# Altium footprint library connector_rename_bug.PcbLib: 30 footprints (part 1 of 2)
Each footprint in its own frame and in the unit in brackets; x right, y up, seen from the top. Pads: shape width x height; smd on the part's side, far side on the other; paste and mask are expansions set on the pad; w line width, h text height; cw(c..) or ccw(c..) is an arc to the next point about the centre after c.
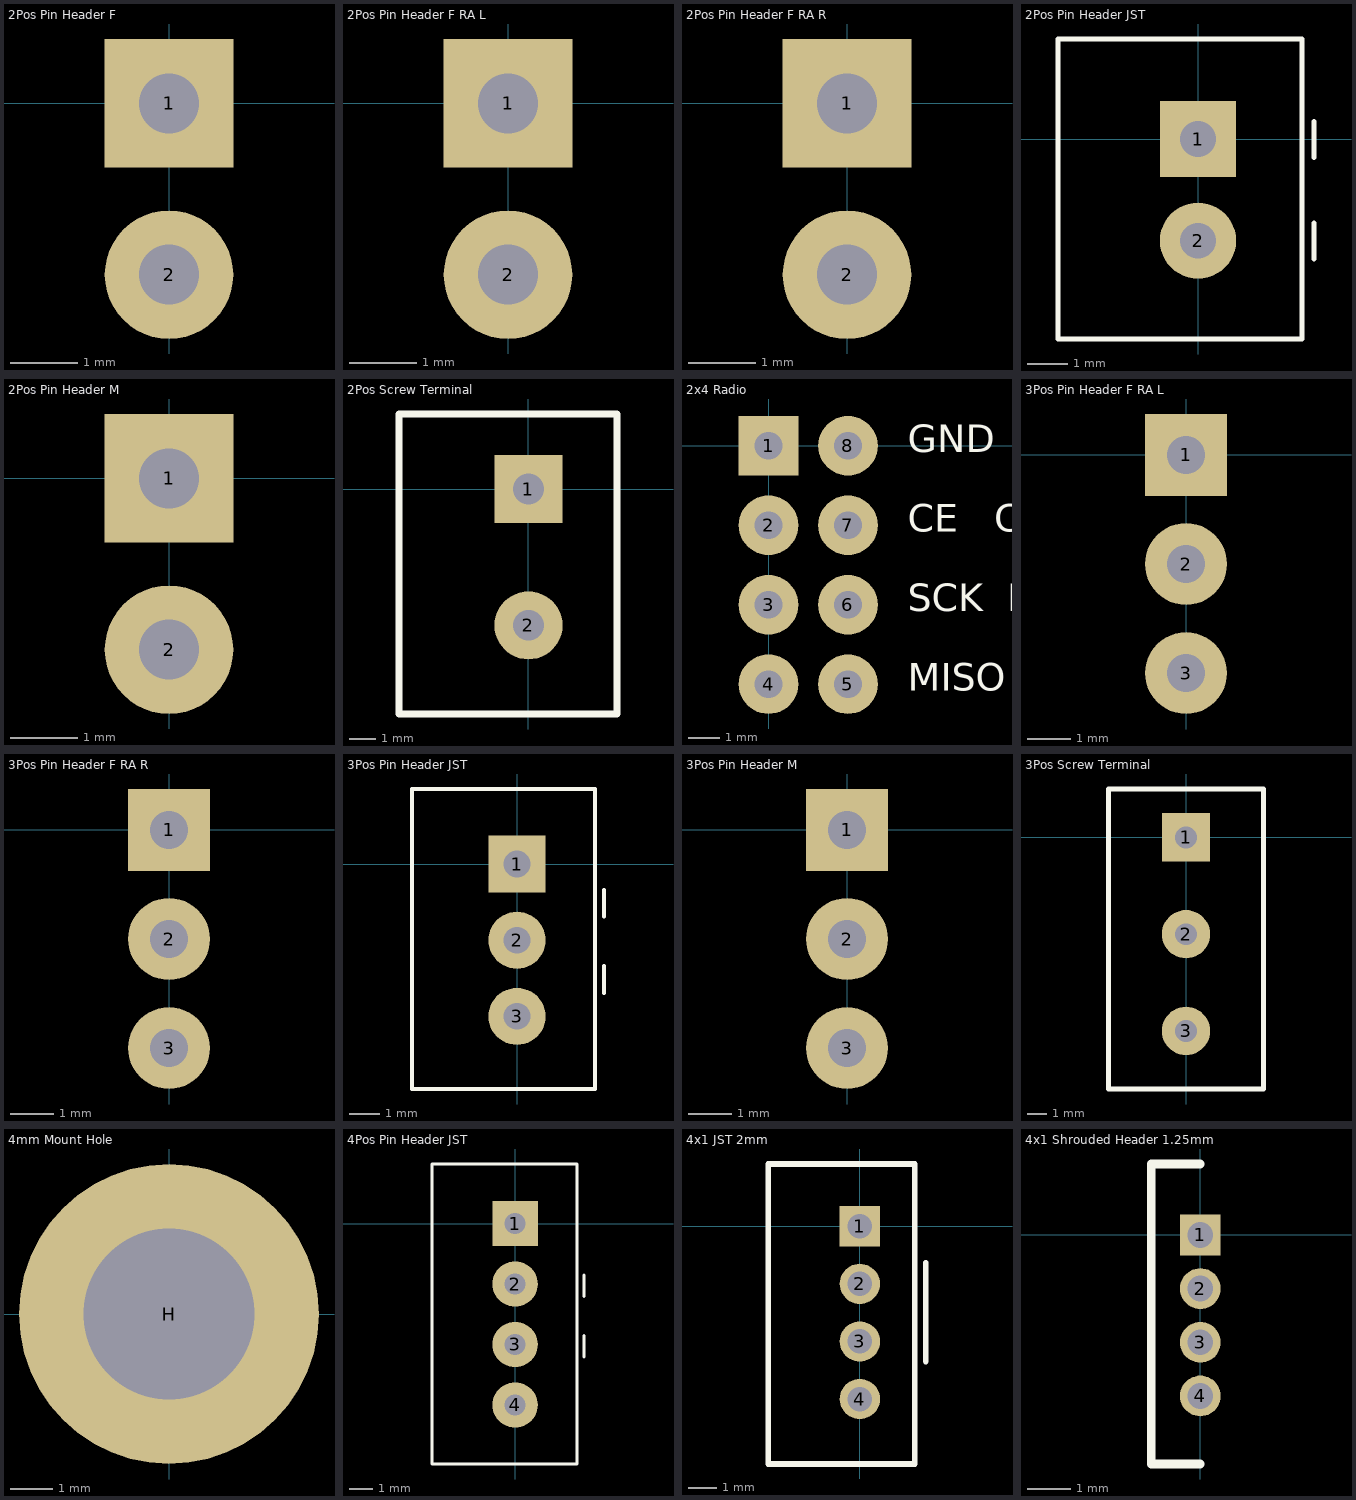
[diagram p0: the footprints below, top view; thin cyan lines are the x and y axes]

## 2Pos Pin Header F [mil] "Female, 0.1\" Pitch"
height 442
pads (2):
  rect 75x75 hole 35: 1(0,0)
  round 75 hole 35: 2(0,-100)
3D body "HEADERFEM2P.stp": height 326.77, standoff -125.98, extent -47.25,-166.92 47.24,66.93

## 2Pos Pin Header F RA L [mil] "Female, 0.1\" Pitch"
height 282
pads (2):
  rect 75x75 hole 35: 1(0,0)
  round 75 hole 35: 2(0,-100)
3D body "User Library-Header90-1.STEP": height 100, standoff -118.11, extent -395.22,-50 12.65,50
3D body "User Library-Header90-1.STEP": height 100, standoff -118.11, extent -395.22,-150 12.65,-50

## 2Pos Pin Header F RA R [mil] "Female, 0.1\" Pitch"
height 282
pads (2):
  rect 75x75 hole 35: 1(0,0)
  round 75 hole 35: 2(0,-100)
3D body "User Library-Header90-1.STEP": height 100, standoff -118.11, extent -12.79,-150 395.08,-50
3D body "User Library-Header90-1.STEP": height 100, standoff -118.11, extent -12.79,-50 395.08,50

## 2Pos Pin Header JST [mil] "Female, 0.1\" Pitch"
height 442
pads (2):
  rect 75x75 hole 35: 1(0,0)
  round 75 hole 35: 2(0,-100)
Top Overlay:
  lines w5: 114.17,-118.11 114.17,-82.68 ; 114.17,-18.11 114.17,17.32 ; -137.8,-196.85 -137.8,98.43 102.36,98.43 102.36,-196.85 -137.8,-196.85
3D body "JST - XH - Thru - 2Pin - 2.54mm.stp": height 284, standoff -118, extent -132.01,-192 97.99,92

## 2Pos Pin Header M [mil] "Female, 0.1\" Pitch"
height 442
pads (2):
  rect 75x75 hole 35: 1(0,0)
  round 75 hole 35: 2(0,-100)
3D body "pinn.SLDPRT": height 351.57, standoff -157.87, extent -12.6,-12.59 12.6,12.6
3D body "pinn.SLDPRT": height 351.57, standoff -157.87, extent -12.6,-112.59 12.6,-87.4
3D body "headerpin.SLDPRT": height 100, standoff 0, extent -50,-50 50,50
3D body "headerpin.SLDPRT": height 100, standoff 0, extent -50,-150 50,-50

## 2Pos Screw Terminal [mil] "0.2\" Pitch"
height 573
pads (2):
  rect 100x100 hole 45: 1(0,0)
  round 100 hole 45: 2(0,-200)
Top Overlay:
  lines w10: -190,-330 130,-330 130,110 -190,110 -190,-330
3D body "DG306-5.0-02P-12-00AH.x_t": height 393.7, standoff -149.5, extent -179.21,-318.66 120,98.66

## 2x4 Radio [mil] "SPI Interface, 0.1\" Pitch"
height 473
pads (8):
  rect 75x75 hole 35: 1(0,0)
  round 75 hole 35: 2(0,-100) 3(0,-200) 4(0,-300) 5(100,-300) 6(100,-200) 7(100,-100) 8(100,0)
Top Overlay:
  text "MISO IRQ" at 175,-320 h60
  text "SCK  MOSI" at 175,-220 h60
  text "CE   CSN" at 175,-120 h60
  text "GND  3V3" at 175,-20 h60

## 3Pos Pin Header F RA L [mil] "Female, 0.1\" Pitch"
height 282
pads (3):
  rect 75x75 hole 35: 1(0,0)
  round 75 hole 35: 2(0,-100) 3(0,-200)
3D body "User Library-Header90-1.STEP": height 100, standoff -118.11, extent -395.22,-50 12.65,50
3D body "User Library-Header90-1.STEP": height 100, standoff -118.11, extent -395.22,-150 12.65,-50
3D body "User Library-Header90-1.STEP": height 100, standoff -118.11, extent -395.22,-250 12.65,-150

## 3Pos Pin Header F RA R [mil] "Female, 0.1\" Pitch"
height 282
pads (3):
  rect 75x75 hole 35: 1(0,0)
  round 75 hole 35: 2(0,-100) 3(0,-200)
3D body "User Library-Header90-1.STEP": height 100, standoff -118.11, extent -12.79,-150 395.08,-50
3D body "User Library-Header90-1.STEP": height 100, standoff -118.11, extent -12.79,-50 395.08,50
3D body "User Library-Header90-1.STEP": height 100, standoff -118.11, extent -12.79,-250 395.08,-150

## 3Pos Pin Header JST [mil] "Male, 0.1\" Pitch"
height 442
pads (3):
  rect 75x75 hole 35: 1(0,0)
  round 75 hole 35: 2(0,-100) 3(0,-200)
Top Overlay:
  lines w5: 114.17,-169.29 114.17,-133.86 ; 114.17,-69.29 114.17,-33.86 ; -137.8,-295.28 -137.8,98.43 102.36,98.43 102.36,-295.28 -137.8,-295.28
3D body "JST - XH - Thru - 3Pin - 2.54mm.stp": height 284, standoff -118, extent -132,-291.99 98,92.01

## 3Pos Pin Header M [mil] "Male, 0.1\" Pitch"
height 442
pads (3):
  rect 75x75 hole 35: 1(0,0)
  round 75 hole 35: 2(0,-100) 3(0,-200)
3D body "Pin Header 1x3 TH Pitch 2.54mm.stp": height 373.85, standoff -125.98, extent -50,-249.99 50,50.01

## 3Pos Screw Terminal [mil] "0.2\" Pitch"
height 573
pads (3):
  rect 100x100 hole 45: 1(0,0)
  round 100 hole 45: 2(0,-200) 3(0,-400)
Top Overlay:
  lines w10: -160,-520 -160,100 160,100 160,-520 -160,-520
3D body "3pos_screw_Outter.SLDPRT": height 410.79, standoff 9.21, extent -153.54,-514.68 153.55,95.55
3D body "3pos_screw_Inner.SLDPRT": height 228.58, standoff -127.56, extent -80,-78.74 155.17,78.74
3D body "3pos_screw_Inner.SLDPRT": height 228.58, standoff -127.56, extent -80,-278.74 155.17,-121.26
3D body "3pos_screw_Inner.SLDPRT": height 228.58, standoff -127.56, extent -80,-478.74 155.17,-321.26
3D body "3pos_screw_Screw.SLDPRT": height 403.74, standoff 147.83, extent -78.67,-78.73 78.68,78.72
3D body "3pos_screw_Screw.SLDPRT": height 403.74, standoff 147.83, extent -78.67,-278.73 78.68,-121.28
3D body "3pos_screw_Screw.SLDPRT": height 403.74, standoff 147.83, extent -78.67,-478.73 78.68,-321.28

## 4mm Mount Hole [mm] "4mm"
height 4
pads (1):
  round 7 hole 4 unplated: H(0,0)

## 4Pos Pin Header JST [mil] "Male, 0.1\" Pitch"
height 442
pads (4):
  rect 75x75 hole 35: 1(0,0)
  round 75 hole 35: 2(0,-100) 3(0,-200) 4(0.01,-300)
Top Overlay:
  lines w5: 114.17,-220.47 114.17,-185.04 ; 114.17,-120.47 114.17,-85.04 ; -137.8,-397.64 102.36,-397.64 102.36,98.43 -137.8,98.43 -137.8,-397.64
3D body "JST - XH - Thru - 4Pin - 2.54mm.stp": height 284, standoff -118, extent -132.01,-392 97.99,92

## 4x1 JST 2mm [mm] "2mm Pitch"
height 7
pads (4):
  rect 1.4x1.4 hole 0.85: 1(0,0)
  round 1.4 hole 0.85: 2(0,-2) 3(0,-4) 4(0,-6)
Top Overlay:
  lines w0.2: 2.286,-4.699 2.286,-1.27 ; -3.175,-8.255 -3.175,2.159 1.905,2.159 1.905,-8.255 -3.175,-8.255
3D body "JST PH Connector A Mini.SLDPRT": height 6, standoff -3.27, extent -3,-7.995 1.7,1.905

## 4x1 Shrouded Header 1.25mm [mm] "1.25mm Pitch"
height 3.6
pads (4):
  rect 0.95x0.95 hole 0.6: 1(0,0)
  round 0.95 hole 0.6: 2(0,-1.25) 3(0,-2.5) 4(0,-3.75)
Top Overlay:
  lines w0.2: 0,-5.334 -1.143,-5.334 -1.143,1.651 0,1.651
3D body "DF13-4P-1.25DS.stp": height 3.68, standoff -2.22, extent -0.9,-5.2 4.5,1.45